# Altium schematic symbol library Capacitors.SchLib: 161 symbols (part 1 of 6)
Pins are listed as number, name and electrical type; pins without a type are passive.

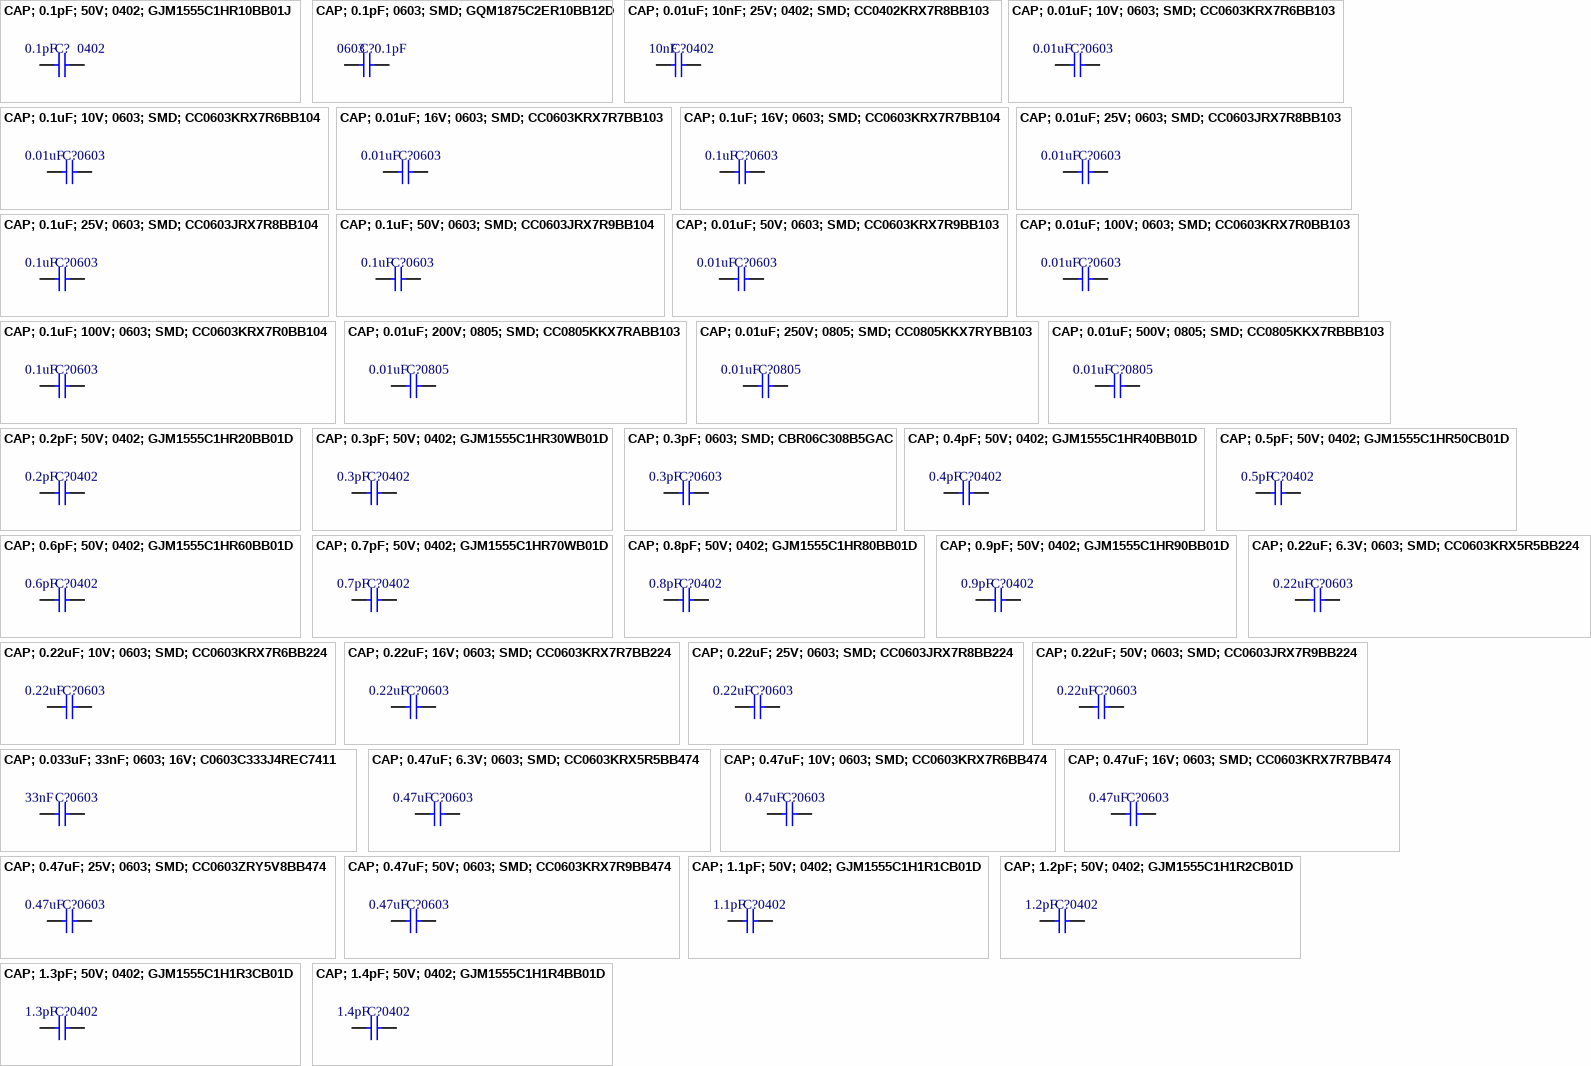
[diagram p0: symbols CAP; 0.1pF; 50V; 0402; GJM1555C1HR10BB01J to CAP; 1.4pF; 50V; 0402; GJM1555C1H1R4BB01D]

## CAP; 0.1pF; 50V; 0402; GJM1555C1HR10BB01J
designator C?, comment value 0.1pF  Package: 0402  (hidden comment: Cap Ceramic 0.1pF 50V C0G 0.1pF SMD 0402 125°C Paper T/R)
Manufacturer: Murata; Manufacturer Part Number: GJM1555C1HR10BB01J; Supplier: Mouser; Supplier Part Number: 81-GJM1555C1HR10BB1J; RoHS: Yes; Category: Ceramic Capacitors; Stock: 52295; Pricing: 1=0.1, 10=0.052, 50=0.052, 100=0.032, 1000=0.021, 10000=0.017 (USD); Mounting Technology: Surface Mount; Case/Package: 0402; Case Code (Imperial): 0402; Case Code (Metric): 1005; Weight: 2.3E-05oz; Min Operating Temperature: -55°C; Max Operating Temperature: 125°C; Voltage Rating (DC): 50V; Packaging: Tape and Reel; Dielectric: C0G; Termination: SMD/SMT; Series: GJM; Construction: Flat; Length: 1mm; Width: 0.5mm; Height: 0.5mm; Depth: 0.5mm; Thickness: 500um; Radiation Hardening: No; RoHS Compliant: Yes; ComponentLink1URL: https://datasheet.ciiva.com/11609/product-11609116.pdf?src-supplier=Avnet; ComponentLink1Description: https://datasheet.ciiva.com/11609/product-11609116.pdf?src-supplier=Avnet
footprint SMD-CAP-0402-ME
pins: 1, 2

## CAP; 0.1pF; 0603; SMD; GQM1875C2ER10BB12D
designator C?, comment value 0.1pF  Package: 0603  (hidden comment: 0.1 pF ±0.1pF 250V Ceramic Capacitor C0G, NP0 0603 (1608 Metric))
Multilayer Ceramic Capacitor, 0.1 pF, 250 V, ± 0.1pF, C0G (NP0), 0603 [1608 Metric]; Manufacturer: Murata; Manufacturer Part Number: GQM1875C2ER10BB12D; Supplier: Mouser; Supplier Part Number: 81-GQM1875C2ER10BB2D; RoHS: Yes; Category: Ceramic Capacitors; Stock: 8028; Pricing: 1=0.37, 10=0.22, 50=0.22, 100=0.145, 1000=0.108, 10000=0.088 (USD); ComponentLink1URL: https://datasheet.ciiva.com/174/product-174598.pdf?src-supplier=Digikey; ComponentLink1Description: https://datasheet.ciiva.com/174/product-174598.pdf?src-supplier=Digikey; ComponentLink2URL: https://datasheet.ciiva.com/11609/product-11609117.pdf?src-supplier=Avnet; ComponentLink2Description: https://datasheet.ciiva.com/11609/product-11609117.pdf?src-supplier=Avnet
footprint SMD-CAP-0603-ME
pins: 1, 2

## CAP; 0.01uF; 10nF; 25V; 0402; SMD; CC0402KRX7R8BB103
designator C?, comment value 10nF  Package: 0402  (hidden comment: 10000 pF ±10% 25V Ceramic Capacitor X7R 0402 (1005 Metric))
0402 10 nF 25 V ±10 % Tolerance X7R SMT Multilayer Ceramic Capacitor; Manufacturer: Yageo; Manufacturer Part Number: CC0402KRX7R8BB103; Material: 4241ConductorMaterial; Temperature Coefficient: 30ppm/°C; Supplier: Future Electronics; Supplier Part Number: 1908656; RoHS: Yes; Category: Ceramic Capacitors; Stock: 11540000; Pricing: 10000=0.0016, 40000=0.0015, 150000=0.0015, 300000=0.0014, 750000=0.0014 (USD); Mounting Technology: Surface Mount; Case/Package: 0402; Case Code (Metric): 1005; Case Code (Imperial): 0402; Min Operating Temperature: -55°C; Max Operating Temperature: 125°C; Tolerance: 10%; Voltage Rating: 25V; Package Quantity: 1; Packaging: Tape and Reel; Voltage Rating (DC): 25V; Dielectric: X7R; Termination: SMD/SMT; Series: CC; Length: 1mm; Width: 0.02inch; Height: 0.5mm; Thickness: 0.022inch; Depth: 0.5mm; Radiation Hardening: No; RoHS Compliant: Yes; Reach SVHC Compliant: Unknown; Halogen Free: 5694HalogenFree; Lead Free: 5697LeadFree; ComponentLink1URL: https://datasheet.ciiva.com/7978/1489800-7978121.pdf?src-supplier=Element14; ComponentLink1Description: https://datasheet.ciiva.com/7978/1489800-7978121.pdf?src-supplier=Element14; ComponentLink2URL: https://datasheet.ciiva.com/28450/1489800-28450361.pdf?src-supplier=Element14; ComponentLink2Description: https://datasheet.ciiva.com/28450/1489800-28450361.pdf?src-supplier=Element14; ComponentLink3URL: https://datasheet.ciiva.com/143/mlccorderingcode-143954.pdf?src-supplier=Digikey; ComponentLink3Description: https://datasheet.ciiva.com/143/mlccorderingcode-143954.pdf?src-supplier=Digikey; ComponentLink4URL: https://datasheet.ciiva.com/143/mlccorderingcode-143953.pdf?src-supplier=Digikey; ComponentLink4Description: https://datasheet.ciiva.com/143/mlccorderingcode-143953.pdf?src-supplier=Digikey; ComponentLink5URL: https://datasheet.ciiva.com/143/mlccorderingcode-143955.pdf?src-supplier=Digikey; ComponentLink5Description: https://datasheet.ciiva.com/143/mlccorderingcode-143955.pdf?src-supplier=Digikey; ComponentLink6URL: https://datasheet.ciiva.com/13389/upy-gphc-x7r-6-3v-to-50v-8-13389981.pdf?src-supplier=Mouser; ComponentLink6Description: https://datasheet.ciiva.com/13389/upy-gphc-x7r-6-3v-to-50v-8-13389981.pdf?src-supplier=Mouser; ComponentLink7URL: https://datasheet.ciiva.com/11464/upy-gphc-x7r-6-3v-to-50v-8-11464888.pdf?src-supplier=Avnet; ComponentLink7Description: https://datasheet.ciiva.com/11464/upy-gphc-x7r-6-3v-to-50v-8-11464888.pdf?src-supplier=Avnet; ComponentLink8URL: https://datasheet.ciiva.com/15189/getdatasheetpartid-375418-15189127.pdf?src-supplier=Verical; ComponentLink8Description: https://datasheet.ciiva.com/15189/getdatasheetpartid-375418-15189127.pdf?src-supplier=Verical
footprint SMD-CAP-0402-YAGEO
pins: 1, 2

## CAP; 0.01uF; 10V; 0603; SMD; CC0603KRX7R6BB103
designator C?, comment value 0.01uF  Package: 0603  (hidden comment: 10000 pF ±10% 10V Ceramic Capacitor X7R 0603 (1608 Metric))
Multilayer Ceramic Capacitor, 0.01 uF, 10 V, ± 10%, X7R, 0603 [1608 Metric]; Manufacturer: Yageo; Manufacturer Part Number: CC0603KRX7R6BB103; Material: 4241ConductorMaterial; Designer: TVBac; Supplier: Digikey; Supplier Part Number: 311-4054-1-ND; RoHS: Yes; Category: Ceramic Capacitors; Stock: 19221; Pricing: 1=0.1, 10=0.046, 50=0.0262, 100=0.0203, 500=0.01528, 1000=0.012 (USD); Lead Free: 5697LeadFree; Halogen Free: 5694HalogenFree; ComponentLink1URL: https://datasheet.ciiva.com/11586/upy-gphc-x7r-6-3v-to-50v-8-11586326.pdf?src-supplier=Avnet; ComponentLink1Description: https://datasheet.ciiva.com/11586/upy-gphc-x7r-6-3v-to-50v-8-11586326.pdf?src-supplier=Avnet; ComponentLink2Description: Link Digikey; ComponentLink2URL: https://www.digikey.com/en/products/detail/yageo/CC0603KRX7R6BB103/5883740
footprint SMD-CAP-0603-YAGEO
pins: 1, 2

## CAP; 0.1uF; 10V; 0603; SMD; CC0603KRX7R6BB104
designator C?, comment value 0.01uF  Package: 0603  (hidden comment: 0.1 µF ±10% 10V Ceramic Capacitor X7R 0603 (1608 Metric))
Multilayer Ceramic Capacitor, 0.1 uF, 10 V, ± 10%, X7R, 0603 [1608 Metric]; Manufacturer: Yageo; Manufacturer Part Number: CC0603KRX7R6BB104; Material: 4241ConductorMaterial; Designer: TVBac; Supplier: Digikey; Supplier Part Number: 311-4055-1-ND; RoHS: Yes; Category: Ceramic Capacitors; Stock: 113177; Pricing: 1=0.1, 10=0.067, 50=0.0398, 100=0.0314, 500=0.02316, 1000=0.01918, 4000=0.01633, 8000=0.01519, 12000=0.01443, 28000=0.01367, 100000=0.01035, 200000=0.0101, 400000=0.00949 (USD); Lead Free: 5697LeadFree; Halogen Free: 5694HalogenFree; ComponentLink1URL: https://datasheet.ciiva.com/11586/upy-gphc-x7r-6-3v-to-50v-8-11586327.pdf?src-supplier=Avnet; ComponentLink1Description: https://datasheet.ciiva.com/11586/upy-gphc-x7r-6-3v-to-50v-8-11586327.pdf?src-supplier=Avnet; ComponentLink2Description: Link Digikey; ComponentLink2URL: https://www.digikey.com/en/products/detail/yageo/CC0603KRX7R6BB104/5883741
footprint SMD-CAP-0603-YAGEO
pins: 1, 2

## CAP; 0.01uF; 16V; 0603; SMD; CC0603KRX7R7BB103
designator C?, comment value 0.01uF  Package: 0603  (hidden comment: 10000 pF ±10% 16V Ceramic Capacitor X7R 0603 (1608 Metric))
Multilayer Ceramic Capacitor, 0.01 uF, 16 V, ± 10%, X7R, 0603 [1608 Metric]; Manufacturer: Yageo; Manufacturer Part Number: CC0603KRX7R7BB103; Material: 4241ConductorMaterial; Designer: TVBac; Supplier: Digikey; Supplier Part Number: 311-3369-1-ND; RoHS: Yes; Category: Ceramic Capacitors; Stock: 24661; Pricing: 1=0.1, 10=0.041, 50=0.0236, 100=0.0183, 500=0.01378, 1000=0.01083 (USD); Lead Free: 5697LeadFree; ComponentLink1URL: https://datasheet.ciiva.com/7978/1489800-7978139.pdf?src-supplier=Element14; ComponentLink1Description: https://datasheet.ciiva.com/7978/1489800-7978139.pdf?src-supplier=Element14; ComponentLink2Description: Link Digikey; ComponentLink2URL: https://www.digikey.com/en/products/detail/yageo/CC0603KRX7R7BB103/5883753
footprint SMD-CAP-0603-YAGEO
pins: 1, 2

## CAP; 0.1uF; 16V; 0603; SMD; CC0603KRX7R7BB104
designator C?, comment value 0.1uF  Package: 0603  (hidden comment: 0.1 µF ±10% 16V Ceramic Capacitor X7R 0603 (1608 Metric))
0603 0.1 uF 16 V ±10 % Tolerance X7R SMT Multilayer Ceramic Capacitor; Manufacturer: Yageo; Manufacturer Part Number: CC0603KRX7R7BB104; Insulation Resistance: 100GR; Designer: TVBac; Supplier: Digikey; Supplier Part Number: 311-1088-1-ND; RoHS: Yes; Category: Ceramic Capacitors; Stock: 8705780; Pricing: 1=0.1, 10=0.042, 50=0.0238, 100=0.0185, 500=0.01392, 1000=0.01094, 4000=0.00915, 8000=0.00836, 12000=0.00796, 28000=0.00756, 100000=0.00547, 200000=0.00529, 400000=0.00497 (USD); Mounting Technology: Surface Mount; Case/Package: 0603; Pins: 2; Case Code (Metric): 1608; Case Code (Imperial): 0603; Material: Ceramic; Min Operating Temperature: -55°C; Max Operating Temperature: 125°C; Voltage Rating: 16V; Tolerance: 10%; Voltage Rating (DC): 16V; Package Quantity: 1; Packaging: Tape and Reel; Dielectric: X7R; Termination: SMD/SMT; Voltage: 16V; Series: CC; Length: 1.6mm; Width: 0.031inch; Height: 0.8mm; Thickness: 0.035inch; Depth: 0.8mm; Radiation Hardening: No; Reach SVHC Compliant: No; Lead Free: Lead Free; Halogen Free: Halogen Free; RoHS Compliant: Yes; ComponentLink1URL: https://datasheet.ciiva.com/11786/0900766b80d84f1d-11786077.pdf?src-supplier=Rs; ComponentLink1Description: https://datasheet.ciiva.com/11786/0900766b80d84f1d-11786077.pdf?src-supplier=Rs; ComponentLink2URL: https://datasheet.ciiva.com/8033/70765-8033799.pdf?src-supplier=Element14; ComponentLink2Description: https://datasheet.ciiva.com/8033/70765-8033799.pdf?src-supplier=Element14; ComponentLink3URL: https://datasheet.ciiva.com/7978/1489800-7978141.pdf?src-supplier=Element14; ComponentLink3Description: https://datasheet.ciiva.com/7978/1489800-7978141.pdf?src-supplier=Element14; ComponentLink4URL: https://datasheet.ciiva.com/28450/1489800-28450552.pdf?src-supplier=Element14; ComponentLink4Description: https://datasheet.ciiva.com/28450/1489800-28450552.pdf?src-supplier=Element14; ComponentLink5URL: https://datasheet.ciiva.com/46430/1734573-46430156.pdf?src-supplier=Element14; ComponentLink5Description: https://datasheet.ciiva.com/46430/1734573-46430156.pdf?src-supplier=Element14; ComponentLink6URL: https://datasheet.ciiva.com/144/mlccorderingcode-144183.pdf?src-supplier=Digikey; ComponentLink6Description: https://datasheet.ciiva.com/144/mlccorderingcode-144183.pdf?src-supplier=Digikey; ComponentLink7URL: https://datasheet.ciiva.com/144/mlccorderingcode-144182.pdf?src-supplier=Digikey; ComponentLink7Description: https://datasheet.ciiva.com/144/mlccorderingcode-144182.pdf?src-supplier=Digikey; ComponentLink8URL: https://datasheet.ciiva.com/144/mlccorderingcode-144184.pdf?src-supplier=Digikey; ComponentLink8Description: https://datasheet.ciiva.com/144/mlccorderingcode-144184.pdf?src-supplier=Digikey; ComponentLink9URL: https://datasheet.ciiva.com/8033/1734573-8033797.pdf?src-supplier=Element14; ComponentLink9Description: https://datasheet.ciiva.com/8033/1734573-8033797.pdf?src-supplier=Element14; ComponentLink10URL: https://datasheet.ciiva.com/13395/upy-gphc-x7r-6-3v-to-50v-8-13395674.pdf?src-supplier=Mouser; ComponentLink10Description: https://datasheet.ciiva.com/13395/upy-gphc-x7r-6-3v-to-50v-8-13395674.pdf?src-supplier=Mouser; ComponentLink11URL: https://datasheet.ciiva.com/11464/upy-gphc-x7r-6-3v-to-50v-8-11464735.pdf?src-supplier=Avnet; ComponentLink11Description: https://datasheet.ciiva.com/11464/upy-gphc-x7r-6-3v-to-50v-8-11464735.pdf?src-supplier=Avnet; ComponentLink12URL: https://datasheet.ciiva.com/15165/getdatasheetpartid-63554-15165387.pdf?src-supplier=Verical; ComponentLink12Description: https://datasheet.ciiva.com/15165/getdatasheetpartid-63554-15165387.pdf?src-supplier=Verical; ComponentLink13Description: Link Digikey; ComponentLink13URL: https://www.digikey.com/en/products/detail/yageo/CC0603KRX7R7BB104/302822
footprint SMD-CAP-0603-YAGEO
pins: 1, 2

## CAP; 0.01uF; 25V; 0603; SMD; CC0603JRX7R8BB103
designator C?, comment value 0.01uF  Package: 0603  (hidden comment: 10000 pF ±5% 25V Ceramic Capacitor X7R 0603 (1608 Metric))
Surface Mount Ceramic Multilayer Capacitor 0.01uF 5% X7R 25V 0603 Paper T/R; Manufacturer: Yageo; Manufacturer Part Number: CC0603JRX7R8BB103; Designer: TVBac; Supplier: Digikey; Supplier Part Number: 311-3995-1-ND; RoHS: Yes; Category: Ceramic Capacitors; Stock: 4379; Pricing: 1=0.1, 10=0.061, 50=0.035, 100=0.0271, 500=0.02036, 1000=0.016 (USD); ComponentLink1URL: https://datasheet.ciiva.com/11465/upy-gphc-x7r-6-3v-to-50v-8-11465030.pdf?src-supplier=Avnet; ComponentLink1Description: https://datasheet.ciiva.com/11465/upy-gphc-x7r-6-3v-to-50v-8-11465030.pdf?src-supplier=Avnet; ComponentLink2Description: Link Digikey; ComponentLink2URL: https://www.digikey.com/en/products/detail/yageo/CC0603JRX7R8BB103/5883656
footprint SMD-CAP-0603-YAGEO
pins: 1, 2

## CAP; 0.1uF; 25V; 0603; SMD; CC0603JRX7R8BB104
designator C?, comment value 0.1uF  Package: 0603  (hidden comment: 0.1 µF ±5% 25V Ceramic Capacitor X7R 0603 (1608 Metric))
Multilayer Ceramic Capacitor, 0.1 uF, 25 V, ï¿½ 5%, X7R, 0603 [1608 Metric]; Manufacturer: Yageo; Manufacturer Part Number: CC0603JRX7R8BB104; Designer: TVBac; Supplier: Digikey; Supplier Part Number: 311-1777-1-ND; RoHS: Yes; Category: Ceramic Capacitors; Stock: 449287; Pricing: 1=0.1, 10=0.068, 50=0.0408, 100=0.0321, 500=0.02372, 1000=0.01964, 4000=0.01672, 8000=0.01555, 12000=0.01478, 28000=0.014, 100000=0.0106, 200000=0.01034, 400000=0.00972 (USD); Mounting Technology: Surface Mount; Case/Package: 0603; Case Code (Imperial): 0603; Case Code (Metric): 1608; Weight: 7.1E-05oz; Min Operating Temperature: -55°C; Max Operating Temperature: 125°C; Voltage Rating: 25V; Voltage Rating (DC): 25V; Tolerance: 5%; Packaging: Tape and Reel; Dielectric: X7R; Termination: SMD/SMT; Series: CC; Construction: Flat; Length: 1.6mm; Width: 0.031inch; Height: 0.8mm; Thickness: 0.035inch; Lead Free: Lead Free; Halogen Free: Halogen Free; RoHS Compliant: Yes; ComponentLink1URL: https://datasheet.ciiva.com/11465/upy-gphc-x7r-6-3v-to-50v-8-11465031.pdf?src-supplier=Avnet; ComponentLink1Description: https://datasheet.ciiva.com/11465/upy-gphc-x7r-6-3v-to-50v-8-11465031.pdf?src-supplier=Avnet; ComponentLink2Description: Link Digikey; ComponentLink2URL: https://www.digikey.com/en/products/detail/yageo/CC0603JRX7R8BB104/5195186
footprint SMD-CAP-0603-YAGEO
pins: 1, 2

## CAP; 0.1uF; 50V; 0603; SMD; CC0603JRX7R9BB104
designator C?, comment value 0.1uF  Package: 0603  (hidden comment: 0.1 µF ±5% 50V Ceramic Capacitor X7R 0603 (1608 Metric))
Multilayer Ceramic Capacitor, 0.1 uF, 50 V, ï¿½ 5%, X7R, 0603 [1608 Metric]; Manufacturer: Yageo; Manufacturer Part Number: CC0603JRX7R9BB104; Material: 4241ConductorMaterial; Designer: TVBac; Supplier: Digikey; Supplier Part Number: 311-1779-1-ND; RoHS: Yes; Category: Ceramic Capacitors; Stock: 376318; Pricing: 1=0.1, 10=0.07, 50=0.04, 100=0.031, 500=0.02334, 1000=0.01833, 4000=0.01533, 8000=0.014, 12000=0.01333, 28000=0.01267, 100000=0.00917, 200000=0.00887, 400000=0.00833 (USD); Pins: 2NUMBER; Lead Free: 5697LeadFree; Halogen Free: 5694HalogenFree; ComponentLink1URL: https://datasheet.ciiva.com/11465/upy-gphc-x7r-6-3v-to-50v-8-11465038.pdf?src-supplier=Avnet; ComponentLink1Description: https://datasheet.ciiva.com/11465/upy-gphc-x7r-6-3v-to-50v-8-11465038.pdf?src-supplier=Avnet; ComponentLink2Description: Link Digikey; ComponentLink2URL: https://www.digikey.com/en/products/detail/yageo/CC0603JRX7R9BB104/5195188
footprint SMD-CAP-0603-YAGEO
pins: 1, 2

## CAP; 0.01uF; 50V; 0603; SMD; CC0603KRX7R9BB103
designator C?, comment value 0.01uF  Package: 0603  (hidden comment: 10000 pF ±10% 50V Ceramic Capacitor X7R 0603 (1608 Metric))
Multilayer Ceramic Capacitors MLCC - SMD/SMT 50V 0.01uF X7R 0603 10%; Manufacturer: Yageo; Manufacturer Part Number: CC0603KRX7R9BB103; Insulation Resistance: 100GR; Designer: TVBac; Supplier: Digikey; Supplier Part Number: 311-1085-1-ND; RoHS: Yes; Category: Ceramic Capacitors; Stock: 3690685; Pricing: 1=0.1, 10=0.031, 50=0.0176, 100=0.0136, 500=0.01026, 1000=0.00805, 4000=0.00674, 8000=0.00615, 12000=0.00586, 28000=0.00557, 100000=0.00403, 200000=0.0039, 400000=0.00366 (USD); Mounting Technology: Surface Mount; Case/Package: 0603; Pins: 2; Case Code (Metric): 1608; Case Code (Imperial): 0603; Material: Ceramic; Min Operating Temperature: -55°C; Max Operating Temperature: 125°C; Tolerance: 10%; Packaging: Tape and Reel; Voltage Rating: 50V; Voltage Rating (DC): 50V; Package Quantity: 1; Dielectric: X7R; Termination: SMD/SMT; Voltage: 50V; Series: CC; Length: 1.6mm; Width: 0.031inch; Height: 0.8mm; Thickness: 0.035inch; Depth: 0.8mm; Radiation Hardening: No; RoHS Compliant: Yes; Reach SVHC Compliant: Unknown; Lead Free: 5697LeadFree; Halogen Free: 5694HalogenFree; ComponentLink1URL: https://datasheet.ciiva.com/8033/70765-8033817.pdf?src-supplier=Element14; ComponentLink1Description: https://datasheet.ciiva.com/8033/70765-8033817.pdf?src-supplier=Element14; ComponentLink2URL: https://datasheet.ciiva.com/28450/1489800-28450619.pdf?src-supplier=Element14; ComponentLink2Description: https://datasheet.ciiva.com/28450/1489800-28450619.pdf?src-supplier=Element14; ComponentLink3URL: https://datasheet.ciiva.com/176/mlccorderingcode-176550.pdf?src-supplier=Digikey; ComponentLink3Description: https://datasheet.ciiva.com/176/mlccorderingcode-176550.pdf?src-supplier=Digikey; ComponentLink4URL: https://datasheet.ciiva.com/176/mlccorderingcode-176552.pdf?src-supplier=Digikey; ComponentLink4Description: https://datasheet.ciiva.com/176/mlccorderingcode-176552.pdf?src-supplier=Digikey; ComponentLink5URL: https://datasheet.ciiva.com/8033/1734573-8033816.pdf?src-supplier=Element14; ComponentLink5Description: https://datasheet.ciiva.com/8033/1734573-8033816.pdf?src-supplier=Element14; ComponentLink6URL: https://datasheet.ciiva.com/8033/1734573-8033861.pdf?src-supplier=Element14; ComponentLink6Description: https://datasheet.ciiva.com/8033/1734573-8033861.pdf?src-supplier=Element14; ComponentLink7Description: Link Digikey; ComponentLink7URL: https://www.digikey.com/en/products/detail/yageo/CC0603KRX7R9BB103/302819
footprint SMD-CAP-0603-YAGEO
pins: 1, 2

## CAP; 0.01uF; 100V; 0603; SMD; CC0603KRX7R0BB103
designator C?, comment value 0.01uF  Package: 0603  (hidden comment: 10000 pF ±10% 100V Ceramic Capacitor X7R 0603 (1608 Metric))
Multilayer Ceramic Capacitor, 0.01 uF, 100 V, ï¿½ 10%, X7R, 0603 [1608 Metric]; Manufacturer: Yageo; Manufacturer Part Number: CC0603KRX7R0BB103; Designer: TVBac; Supplier: Digikey; Supplier Part Number: 311-1788-1-ND; RoHS: Yes; Category: Ceramic Capacitors; Stock: 121645; Pricing: 1=0.1, 10=0.05, 50=0.0288, 100=0.0223, 500=0.0168, 1000=0.01319, 4000=0.01104, 8000=0.01008, 12000=0.0096, 28000=0.00912, 100000=0.0066, 200000=0.00638, 400000=0.006 (USD); Mounting Technology: Surface Mount; Case/Package: 0603; Case Code (Imperial): 0603; Case Code (Metric): 1608; Dielectric Material: Ceramic; Min Operating Temperature: -55°C; Max Operating Temperature: 125°C; Tolerance: 10%; Voltage Rating: 100V; Packaging: Tape and Reel; Package Quantity: 4000; Voltage Rating (DC): 100V; Dielectric: X7R; Termination: SMD/SMT; Series: CC; Construction: Flat; Voltage Rating (AC): 100V; Length: 1.6mm; Width: 0.031inch; Height: 0.8mm; Thickness: 0.035inch; Depth: 0.8mm; Radiation Hardening: No; Lead Free: Lead Free; RoHS Compliant: Yes; Reach SVHC Compliant: Unknown; ComponentLink1URL: https://datasheet.ciiva.com/8033/1669968-8033774.pdf?src-supplier=Element14; ComponentLink1Description: https://datasheet.ciiva.com/8033/1669968-8033774.pdf?src-supplier=Element14; ComponentLink2URL: https://datasheet.ciiva.com/13389/upy-gphc-x7r-6-3v-to-50v-8-13389353.pdf?src-supplier=Mouser; ComponentLink2Description: https://datasheet.ciiva.com/13389/upy-gphc-x7r-6-3v-to-50v-8-13389353.pdf?src-supplier=Mouser; ComponentLink3URL: https://datasheet.ciiva.com/17458/upy-np0x7r-mv-100-to-630v-9-17458073.pdf?src-supplier=Future+Electronics; ComponentLink3Description: https://datasheet.ciiva.com/17458/upy-np0x7r-mv-100-to-630v-9-17458073.pdf?src-supplier=Future+Electronics; ComponentLink4URL: https://datasheet.ciiva.com/26829/getdatasheetpartid-626135-26829418.pdf?src-supplier=Verical; ComponentLink4Description: https://datasheet.ciiva.com/26829/getdatasheetpartid-626135-26829418.pdf?src-supplier=Verical; ComponentLink5Description: Link Digikey; ComponentLink5URL: https://www.digikey.com/en/products/detail/yageo/CC0603KRX7R0BB103/5195196
footprint SMD-CAP-0603-YAGEO
pins: 1, 2

## CAP; 0.1uF; 100V; 0603; SMD; CC0603KRX7R0BB104
designator C?, comment value 0.1uF  Package: 0603  (hidden comment: 0.1 µF ±10% 100V Ceramic Capacitor X7R 0603 (1608 Metric))
Multilayer Ceramic Capacitors MLCC - SMD/SMT 100V 0.1uF X7R 0603 10%; Manufacturer: Yageo; Manufacturer Part Number: CC0603KRX7R0BB104; Material: 4241ConductorMaterial; Designer: TVBac; Supplier: Digikey; Supplier Part Number: 311-1523-1-ND; RoHS: Yes; Category: Ceramic Capacitors; Stock: 5373598; Pricing: 1=0.17, 10=0.113, 50=0.0676, 100=0.0531, 500=0.03922, 1000=0.03246, 4000=0.02764, 8000=0.02572, 12000=0.02443, 28000=0.02314, 100000=0.01752, 200000=0.0171, 400000=0.01607 (USD); Mounting Technology: Surface Mount; Case/Package: 0603; Case Code (Metric): 1608; Case Code (Imperial): 0603; Weight: 7.1E-05oz; Min Operating Temperature: -55°C; Max Operating Temperature: 125°C; Package Quantity: 4000; Voltage Rating: 100V; Tolerance: 10%; Packaging: Tape and Reel; Dielectric: X7R; Termination: SMD/SMT; Voltage Rating (DC): 100V; Series: CC; Length: 0.063inch; Width: 0.031inch; Height: 900um; Thickness: 0.035inch; RoHS Compliant: Yes; Lead Free: 5697LeadFree; ComponentLink1URL: https://datasheet.ciiva.com/6277/mlccorderingcode-6277082.pdf?src-supplier=Digikey; ComponentLink1Description: https://datasheet.ciiva.com/6277/mlccorderingcode-6277082.pdf?src-supplier=Digikey; ComponentLink2URL: https://datasheet.ciiva.com/6277/mlccorderingcode-6277081.pdf?src-supplier=Digikey; ComponentLink2Description: https://datasheet.ciiva.com/6277/mlccorderingcode-6277081.pdf?src-supplier=Digikey; ComponentLink3URL: https://datasheet.ciiva.com/6277/mlccorderingcode-6277030.pdf?src-supplier=Digikey; ComponentLink3Description: https://datasheet.ciiva.com/6277/mlccorderingcode-6277030.pdf?src-supplier=Digikey; ComponentLink4Description: Link Digikey; ComponentLink4URL: https://www.digikey.com/en/products/detail/yageo/CC0603KRX7R0BB104/3476111?s=N4IgTCBcDaIMwEYEFoEFYx1cgcgERAF0BfIA
footprint SMD-CAP-0603-YAGEO
pins: 1, 2

## CAP; 0.01uF; 200V; 0805; SMD; CC0805KKX7RABB103
designator C?, comment value 0.01uF  Package: 0805  (hidden comment: 10000 pF ±10% 200V Ceramic Capacitor X7R 0805 (2012 Metric))
Multilayer Ceramic Capacitor, 0.01 uF, 200 V, ± 10%, X7R, 0805 [2012 Metric]; Manufacturer: Yageo; Manufacturer Part Number: CC0805KKX7RABB103; Designer: TVBac; Supplier: Digikey; Supplier Part Number: 311-1486-1-ND; RoHS: Yes; Category: Ceramic Capacitors; Stock: 24335; Pricing: 1=0.19, 10=0.129, 50=0.0768, 100=0.0605, 500=0.04466, 1000=0.03698 (USD); ComponentLink1URL: https://datasheet.ciiva.com/13207/upy-gp-np0-16v-to-50v-8-3714-13207690.pdf?src-supplier=Mouser; ComponentLink1Description: https://datasheet.ciiva.com/13207/upy-gp-np0-16v-to-50v-8-3714-13207690.pdf?src-supplier=Mouser; ComponentLink2URL: https://datasheet.ciiva.com/179/mlccorderingcode-179293.pdf?src-supplier=Digikey; ComponentLink2Description: https://datasheet.ciiva.com/179/mlccorderingcode-179293.pdf?src-supplier=Digikey; ComponentLink3URL: https://datasheet.ciiva.com/179/mlccorderingcode-179294.pdf?src-supplier=Digikey; ComponentLink3Description: https://datasheet.ciiva.com/179/mlccorderingcode-179294.pdf?src-supplier=Digikey; ComponentLink4URL: https://datasheet.ciiva.com/179/mlccorderingcode-179295.pdf?src-supplier=Digikey; ComponentLink4Description: https://datasheet.ciiva.com/179/mlccorderingcode-179295.pdf?src-supplier=Digikey; ComponentLink5Description: Link Digikey; ComponentLink5URL: https://www.digikey.com/en/products/detail/yageo/CC0805KKX7RABB103/2833651
footprint SMD-CAP-0805-YAGEO
pins: 1, 2

## CAP; 0.01uF; 250V; 0805; SMD; CC0805KKX7RYBB103
designator C?, comment value 0.01uF  Package: 0805  (hidden comment: 10000 pF ±10% 250V Ceramic Capacitor X7R 0805 (2012 Metric))
0805 10 nF 250 V ±10 % Tolerance X7R SMT Multilayer Ceramic Capacitor; Manufacturer: Yageo; Manufacturer Part Number: CC0805KKX7RYBB103; Designer: TVBac; Supplier: Digikey; Supplier Part Number: 311-1477-1-ND; RoHS: Yes; Category: Ceramic Capacitors; Stock: 20011; Pricing: 1=0.19, 10=0.129, 50=0.0768, 100=0.0605, 500=0.04466, 1000=0.03698 (USD); ComponentLink1URL: https://datasheet.ciiva.com/26862/getdatasheetpartid-485493-26862971.pdf?src-supplier=Verical; ComponentLink1Description: https://datasheet.ciiva.com/26862/getdatasheetpartid-485493-26862971.pdf?src-supplier=Verical; ComponentLink2URL: https://datasheet.ciiva.com/8034/1625167-8034008.pdf?src-supplier=Element14; ComponentLink2Description: https://datasheet.ciiva.com/8034/1625167-8034008.pdf?src-supplier=Element14; ComponentLink3URL: https://datasheet.ciiva.com/22698/1919308-22698727.pdf?src-supplier=Element14; ComponentLink3Description: https://datasheet.ciiva.com/22698/1919308-22698727.pdf?src-supplier=Element14; ComponentLink4URL: https://datasheet.ciiva.com/17014/upy-np0x7r-mv-100-to-630v-9-17014489.pdf?src-supplier=Future+Electronics; ComponentLink4Description: https://datasheet.ciiva.com/17014/upy-np0x7r-mv-100-to-630v-9-17014489.pdf?src-supplier=Future+Electronics; ComponentLink5URL: https://datasheet.ciiva.com/178/mlccorderingcode-178800.pdf?src-supplier=Digikey; ComponentLink5Description: https://datasheet.ciiva.com/178/mlccorderingcode-178800.pdf?src-supplier=Digikey; ComponentLink6URL: https://datasheet.ciiva.com/178/mlccorderingcode-178801.pdf?src-supplier=Digikey; ComponentLink6Description: https://datasheet.ciiva.com/178/mlccorderingcode-178801.pdf?src-supplier=Digikey; ComponentLink7URL: https://datasheet.ciiva.com/178/mlccorderingcode-178802.pdf?src-supplier=Digikey; ComponentLink7Description: https://datasheet.ciiva.com/178/mlccorderingcode-178802.pdf?src-supplier=Digikey; ComponentLink8URL: https://datasheet.ciiva.com/11465/upy-np0x7r-mv-100-to-630v-9-11465245.pdf?src-supplier=Avnet; ComponentLink8Description: https://datasheet.ciiva.com/11465/upy-np0x7r-mv-100-to-630v-9-11465245.pdf?src-supplier=Avnet; ComponentLink9Description: Link Digikey; ComponentLink9URL: https://www.digikey.com/en/products/detail/yageo/CC0805KKX7RYBB103/2833642
footprint SMD-CAP-0805-YAGEO
pins: 1, 2

## CAP; 0.01uF; 500V; 0805; SMD; CC0805KKX7RBBB103
designator C?, comment value 0.01uF  Package: 0805  (hidden comment: 10000 pF ±10% 500V Ceramic Capacitor X7R 0805 (2012 Metric))
Surface Mount Ceramic Multilayer Capacitor 0.01uF 10% X7R 500V 0805 Blister T/R; Manufacturer: Yageo; Manufacturer Part Number: CC0805KKX7RBBB103; Dielectric Material: 4241ConductorMaterial; Designer: TVBac; Supplier: Future Electronics; Supplier Part Number: 6622369; RoHS: Yes; Category: Ceramic Capacitors; Stock: 21000; Pricing: 3000=0.0191, 9000=0.0187, 15000=0.0185, 60000=0.0179, 90000=0.0176 (USD); Voltage Rating (AC): 500V; Lead Free: 5697LeadFree; ComponentLink1URL: https://datasheet.ciiva.com/11786/0900766b80d84f7f-11786089.pdf?src-supplier=Rs; ComponentLink1Description: https://datasheet.ciiva.com/11786/0900766b80d84f7f-11786089.pdf?src-supplier=Rs; ComponentLink2URL: https://datasheet.ciiva.com/13264/upy-gp-np0-16v-to-50v-8-3714-13264827.pdf?src-supplier=Mouser; ComponentLink2Description: https://datasheet.ciiva.com/13264/upy-gp-np0-16v-to-50v-8-3714-13264827.pdf?src-supplier=Mouser; ComponentLink3URL: https://datasheet.ciiva.com/8034/1669968-8034005.pdf?src-supplier=Element14; ComponentLink3Description: https://datasheet.ciiva.com/8034/1669968-8034005.pdf?src-supplier=Element14; ComponentLink4URL: https://datasheet.ciiva.com/8034/1669968-8034006.pdf?src-supplier=Element14; ComponentLink4Description: https://datasheet.ciiva.com/8034/1669968-8034006.pdf?src-supplier=Element14; ComponentLink5Description: Link Digikey; ComponentLink5URL: https://www.digikey.com/en/products/detail/yageo/CC0805KKX7RBBB103/5884165
footprint SMD-CAP-0805-YAGEO
pins: 1, 2

## CAP; 0.2pF; 50V; 0402; GJM1555C1HR20BB01D
designator C?, comment value 0.2pF  Package: 0402  (hidden comment: CAP CER 0.2PF 50V C0G/NP0 0402)
Manufacturer: Murata; Manufacturer Part Number: GJM1555C1HR20BB01D; Supplier: Mouser; Supplier Part Number: 81-GJM1555C1HR20BB01; RoHS: Yes; Category: Ceramic Capacitors; Stock: 14868; Pricing: 1=0.11, 10=0.058, 50=0.058, 100=0.034, 1000=0.022, 10000=0.015 (USD); ComponentLink1URL: https://datasheet.ciiva.com/11618/product-11618951.pdf?src-supplier=Avnet; ComponentLink1Description: https://datasheet.ciiva.com/11618/product-11618951.pdf?src-supplier=Avnet; ComponentLink2URL: https://datasheet.ciiva.com/3778/2864gjm1555c1hr20bb0123-3778292.pdf?src-supplier=Arrow+Electronics; ComponentLink2Description: https://datasheet.ciiva.com/3778/2864gjm1555c1hr20bb0123-3778292.pdf?src-supplier=Arrow+Electronics; ComponentLink3URL: https://datasheet.ciiva.com/5694/1700183-5694996.pdf?src-supplier=Farnell; ComponentLink3Description: https://datasheet.ciiva.com/5694/1700183-5694996.pdf?src-supplier=Farnell; ComponentLink4URL: https://datasheet.ciiva.com/8030/1303334-8030133.pdf?src-supplier=Element14; ComponentLink4Description: https://datasheet.ciiva.com/8030/1303334-8030133.pdf?src-supplier=Element14; ComponentLink5URL: https://datasheet.ciiva.com/22732/1303334-22732106.pdf?src-supplier=Element14; ComponentLink5Description: https://datasheet.ciiva.com/22732/1303334-22732106.pdf?src-supplier=Element14; ComponentLink6URL: https://datasheet.ciiva.com/167/partnumbering-e-01-167839.pdf?src-supplier=Digikey; ComponentLink6Description: https://datasheet.ciiva.com/167/partnumbering-e-01-167839.pdf?src-supplier=Digikey; ComponentLink7URL: https://datasheet.ciiva.com/29542/partnumbering-e-01-29542731.pdf?src-supplier=Digikey; ComponentLink7Description: https://datasheet.ciiva.com/29542/partnumbering-e-01-29542731.pdf?src-supplier=Digikey; ComponentLink8URL: https://datasheet.ciiva.com/29542/partnumbering-e-01-29542732.pdf?src-supplier=Digikey; ComponentLink8Description: https://datasheet.ciiva.com/29542/partnumbering-e-01-29542732.pdf?src-supplier=Digikey; Case Code (Imperial): 0402
footprint SMD-CAP-0402-ME
pins: 1, 2

## CAP; 0.3pF; 50V; 0402; GJM1555C1HR30WB01D
designator C?, comment value 0.3pF  Package: 0402  (hidden comment: 0402 0.3 pF 50V ±0.05 pF Tolerance C0G SMT Multilayer Ceramic Capacitor)
Manufacturer: Murata; Manufacturer Part Number: GJM1555C1HR30WB01D; Material: 4241ConductorMaterial; Temperature Coefficient: 30ppm/°C; Supplier: Future Electronics; Supplier Part Number: 6104033; RoHS: Yes; Category: Ceramic Capacitors; Stock: 7462; Pricing: 1=0.13, 20=0.0959, 150=0.0728, 1000=0.051, 5000=0.0325 (USD); Mounting Technology: Surface Mount; Case/Package: 0402; Case Code (Metric): 1005; Case Code (Imperial): 0402; Min Operating Temperature: -55°C; Max Operating Temperature: 125°C; Packaging: Tape and Reel; Package Quantity: 10000; Voltage Rating: 50V; Dielectric: C0G; Voltage Rating (DC): 50V; Termination: SMD/SMT; Series: GJM; Construction: Flat; Length: 1mm; Width: 0.02inch; Height: 0.5mm; Thickness: 0.022inch; Depth: 0.5mm; Radiation Hardening: No; Lead Free: Lead Free; RoHS Compliant: Yes; ComponentLink1URL: https://datasheet.ciiva.com/11617/product-11617574.pdf?src-supplier=Avnet; ComponentLink1Description: https://datasheet.ciiva.com/11617/product-11617574.pdf?src-supplier=Avnet
footprint SMD-CAP-0402-ME
pins: 1, 2

## CAP; 0.3pF; 0603; SMD; CBR06C308B5GAC
designator C?, comment value 0.3pF  Package: 0603  (hidden comment: 0.3 pF ±0.1pF 50V Ceramic Capacitor C0G, NP0 0603 (1608 Metric))
Cap Cer Cap Cer 0.3PF 50V NP0 06; Manufacturer: KEMET; Manufacturer Part Number: CBR06C308B5GAC; Supplier: Mouser; Supplier Part Number: 80-CBR06C308B5G; RoHS: Yes; Category: Ceramic Capacitors; Stock: 19259; Pricing: 1=0.19, 10=0.078, 50=0.078, 100=0.05, 1000=0.045, 10000=0.03 (USD); Mounting Technology: Surface Mount; Case/Package: 0603; Case Code (Metric): 1608; Case Code (Imperial): 0603; Weight: 7.1E-05oz; Min Operating Temperature: -55°C; Max Operating Temperature: 125°C; Package Quantity: 4000; Voltage Rating: 50V; Packaging: Tape and Reel; Voltage Rating (DC): 50V; Dielectric: C0G; Termination: SMD/SMT; Series: CBR; Length: 0.063inch; Width: 0.8mm; Height: 0.8mm; Thickness: 0.034inch; RoHS Compliant: Yes; ComponentLink1URL: https://datasheet.ciiva.com/6274/kem-c1030-cbr-smd-6274588.pdf?src-supplier=Digikey; ComponentLink1Description: https://datasheet.ciiva.com/6274/kem-c1030-cbr-smd-6274588.pdf?src-supplier=Digikey
footprint SMD-CAP-0603-KEMET
pins: 1, 2

## CAP; 0.4pF; 50V; 0402; GJM1555C1HR40BB01D
designator C?, comment value 0.4pF  Package: 0402  (hidden comment: GJM1555C1HR40BB01D ; Rohs; Murata ; Cap Ceramic 0.4PF 50V C0G 0402*)
GJM1555C1HR40BB01D ; Rohs; Murata ; Cap Ceramic 0.4PF 50V C0G 0402; Supplier: Mouser; Supplier Part Number: 81-GJM1555C1HR40BB01; Manufacturer: Murata; Manufacturer Part Number: GJM1555C1HR40BB01D; RoHS: Yes; Category: Ceramic Capacitors; Stock: 24973; Pricing: 1=0.1, 10=0.046, 50=0.046, 100=0.027, 1000=0.022, 10000=0.017 (USD); ComponentLink1URL: https://datasheet.ciiva.com/167/product-167841.pdf?src-supplier=Digikey; ComponentLink1Description: https://datasheet.ciiva.com/167/product-167841.pdf?src-supplier=Digikey; ComponentLink2URL: https://datasheet.ciiva.com/29542/partnumbering-e-01-29542713.pdf?src-supplier=Digikey; ComponentLink2Description: https://datasheet.ciiva.com/29542/partnumbering-e-01-29542713.pdf?src-supplier=Digikey; ComponentLink3URL: https://datasheet.ciiva.com/29542/partnumbering-e-01-29542714.pdf?src-supplier=Digikey; ComponentLink3Description: https://datasheet.ciiva.com/29542/partnumbering-e-01-29542714.pdf?src-supplier=Digikey; ComponentLink4URL: https://datasheet.ciiva.com/11621/product-11621837.pdf?src-supplier=Avnet; ComponentLink4Description: https://datasheet.ciiva.com/11621/product-11621837.pdf?src-supplier=Avnet; Case Code (Imperial): 0402
footprint SMD-CAP-0402-ME
pins: 1, 2

## CAP; 0.5pF; 50V; 0402; GJM1555C1HR50CB01D
designator C?, comment value 0.5pF  Package: 0402  (hidden comment: GJM1555C1HR40BB01D ; Rohs; Murata ; Cap Ceramic 0.4PF 50V C0G 0402)
Multilayer Ceramic Capacitor, 0.5 pF, 50 V, ± 0.25pF, C0G (NP0), 0402 [1005 Metric]; Manufacturer Part Number: GJM1555C1HR50CB01D; Supplier: Mouser; Supplier Part Number: 81-GJM1555C1HR50CB1D; Manufacturer: Murata; RoHS: Yes; Category: Ceramic Capacitors; Stock: 26461; Pricing: 1=0.1, 10=0.032, 50=0.032, 100=0.021, 1000=0.013, 10000=0.008 (USD); Mounting Technology: Surface Mount; Case/Package: 0402; Case Code (Imperial): 0402; Case Code (Metric): 1005; Min Operating Temperature: -55°C; Max Operating Temperature: 125°C; Packaging: Tape and Reel; Voltage Rating: 50V; Package Quantity: 1; Dielectric: C0G; Termination: SMD/SMT; Voltage Rating (DC): 50V; Series: GJM; Construction: Flat; Length: 0.039inch; Width: 0.02inch; Height: 0.5mm; Thickness: 0.022inch; Depth: 0.5mm; Radiation Hardening: No; Lead Free: Lead Free; RoHS Compliant: Yes; ComponentLink1URL: https://datasheet.ciiva.com/129/chip20monolithic20cer20caps20c02e-13-129648.pdf?src-supplier=Digikey; ComponentLink1Description: https://datasheet.ciiva.com/129/chip20monolithic20cer20caps20c02e-13-129648.pdf?src-supplier=Digikey; ComponentLink2URL: https://datasheet.ciiva.com/16440/gjm1555c1hr50cb01d-16440467.pdf?src-supplier=Future+Electronics; ComponentLink2Description: https://datasheet.ciiva.com/16440/gjm1555c1hr50cb01d-16440467.pdf?src-supplier=Future+Electronics; ComponentLink3URL: https://datasheet.ciiva.com/29541/partnumbering-e-01-29541101.pdf?src-supplier=Digikey; ComponentLink3Description: https://datasheet.ciiva.com/29541/partnumbering-e-01-29541101.pdf?src-supplier=Digikey; ComponentLink4URL: https://datasheet.ciiva.com/29541/partnumbering-e-01-29541100.pdf?src-supplier=Digikey; ComponentLink4Description: https://datasheet.ciiva.com/29541/partnumbering-e-01-29541100.pdf?src-supplier=Digikey; ComponentLink5URL: https://datasheet.ciiva.com/11617/c02e-11617174.pdf?src-supplier=Avnet; ComponentLink5Description: https://datasheet.ciiva.com/11617/c02e-11617174.pdf?src-supplier=Avnet
footprint SMD-CAP-0402-ME
pins: 1, 2

## CAP; 0.6pF; 50V; 0402; GJM1555C1HR60BB01D
designator C?, comment value 0.6pF  Package: 0402  (hidden comment: CAP CER 0.6PF 50V NP0 0402)
Manufacturer: Murata; Manufacturer Part Number: GJM1555C1HR60BB01D; Material: 4241ConductorMaterial; Dielectric: C0G; Temperature Coefficient: 30ppm/°C; Supplier: Mouser; Supplier Part Number: 81-GJM1555C1HR60BB1D; RoHS: Yes; Category: Ceramic Capacitors; Stock: 20200; Pricing: 1=0.1, 10=0.048, 50=0.048, 100=0.031, 1000=0.021, 10000=0.012 (USD); Mounting Technology: Surface Mount; Case/Package: 0402; Case Code (Imperial): 0402; Case Code (Metric): 1005; Min Operating Temperature: -55°C; Max Operating Temperature: 125°C; Package Quantity: 1; Packaging: Tape and Reel; Voltage Rating: 50V; Termination: SMD/SMT; Voltage Rating (DC): 50V; Series: GJM; Construction: Flat; Length: 1mm; Width: 0.02inch; Height: 0.5mm; Thickness: 0.022inch; Depth: 0.5mm; Radiation Hardening: No; Lead Free: Lead Free; RoHS Compliant: Yes; ComponentLink1URL: https://datasheet.ciiva.com/6270/product-6270546.pdf?src-supplier=Digikey; ComponentLink1Description: https://datasheet.ciiva.com/6270/product-6270546.pdf?src-supplier=Digikey; ComponentLink2URL: https://datasheet.ciiva.com/16500/l0005e-16500839.pdf?src-supplier=Future+Electronics; ComponentLink2Description: https://datasheet.ciiva.com/16500/l0005e-16500839.pdf?src-supplier=Future+Electronics
footprint SMD-CAP-0402-ME
pins: 1, 2

## CAP; 0.7pF; 50V; 0402; GJM1555C1HR70WB01D
designator C?, comment value 0.7pF  Package: 0402  (hidden comment: Multilayer Ceramic Capacitor, 0.7 pF, 50 V, ï¿½ 0.05pF, C0G (NP0), 0402 [1005 Metric])
Manufacturer: Murata; Manufacturer Part Number: GJM1555C1HR70WB01D; Material: 4241ConductorMaterial; Temperature Coefficient: 30ppm/°C; Supplier: Mouser; Supplier Part Number: 81-GJM1555C1HR70WB1D; RoHS: Yes; Category: Ceramic Capacitors; Stock: 24991; Pricing: 1=0.13, 10=0.075, 50=0.075, 100=0.048, 1000=0.033, 10000=0.022 (USD); ComponentLink1URL: https://datasheet.ciiva.com/170/product-170099.pdf?src-supplier=Digikey; ComponentLink1Description: https://datasheet.ciiva.com/170/product-170099.pdf?src-supplier=Digikey; ComponentLink2URL: https://datasheet.ciiva.com/2989/product-2989256.pdf?src-supplier=Avnet; ComponentLink2Description: https://datasheet.ciiva.com/2989/product-2989256.pdf?src-supplier=Avnet; Case Code (Imperial): 0402
footprint SMD-CAP-0402-ME
pins: 1, 2

## CAP; 0.8pF; 50V; 0402; GJM1555C1HR80BB01D
designator C?, comment value 0.8pF  Package: 0402  (hidden comment: Multilayer Ceramic Capacitor, 0.8 pF, 50 V, ± 0.1pF, C0G (NP0), 0402 [1005 Metric])
Manufacturer: Murata; Manufacturer Part Number: GJM1555C1HR80BB01D; Material: 4241ConductorMaterial; Voltage Rating: 50V; Temperature Coefficient: 30ppm/°C; Supplier: Mouser; Supplier Part Number: 81-GJM1555C1HR80BB1D; RoHS: Yes; Category: Ceramic Capacitors; Stock: 31297; Pricing: 1=0.11, 10=0.058, 50=0.058, 100=0.034, 1000=0.029, 10000=0.018 (USD); Mounting Technology: Surface Mount; Case/Package: 0402; Case Code (Metric): 1005; Case Code (Imperial): 0402; Min Operating Temperature: -55°C; Max Operating Temperature: 125°C; Packaging: Tape and Reel; Package Quantity: 1; Voltage Rating (DC): 50V; Dielectric: C0G; Termination: SMD/SMT; Voltage: 50V; Series: GJM; Construction: Flat; Length: 1mm; Width: 0.02inch; Height: 0.5mm; Thickness: 0.022inch; Depth: 0.5mm; Radiation Hardening: No; RoHS Compliant: Yes; Lead Free: 5697LeadFree; ComponentLink1URL: https://datasheet.ciiva.com/6270/product-6270516.pdf?src-supplier=Digikey; ComponentLink1Description: https://datasheet.ciiva.com/6270/product-6270516.pdf?src-supplier=Digikey; ComponentLink2URL: https://datasheet.ciiva.com/18183/getdatasheetpartid-75095-18183863.pdf?src-supplier=Verical; ComponentLink2Description: https://datasheet.ciiva.com/18183/getdatasheetpartid-75095-18183863.pdf?src-supplier=Verical; ComponentLink3URL: https://datasheet.ciiva.com/6270/partnumbering-e-01-6270552.pdf?src-supplier=Digikey; ComponentLink3Description: https://datasheet.ciiva.com/6270/partnumbering-e-01-6270552.pdf?src-supplier=Digikey; ComponentLink4URL: https://datasheet.ciiva.com/6270/partnumbering-e-01-6270517.pdf?src-supplier=Digikey; ComponentLink4Description: https://datasheet.ciiva.com/6270/partnumbering-e-01-6270517.pdf?src-supplier=Digikey; ComponentLink5URL: https://datasheet.ciiva.com/11616/product-11616838.pdf?src-supplier=Avnet; ComponentLink5Description: https://datasheet.ciiva.com/11616/product-11616838.pdf?src-supplier=Avnet; ComponentLink6URL: https://datasheet.ciiva.com/16440/l0005e-16440469.pdf?src-supplier=Future+Electronics; ComponentLink6Description: https://datasheet.ciiva.com/16440/l0005e-16440469.pdf?src-supplier=Future+Electronics
footprint SMD-CAP-0402-ME
pins: 1, 2

## CAP; 0.9pF; 50V; 0402; GJM1555C1HR90BB01D
designator C?, comment value 0.9pF  Package: 0402  (hidden comment: 0402 0.9 pF 50 V ±0.1 pF Tolerance C0G SMT Multilayer Ceramic Capacitor)
Manufacturer: Murata; Manufacturer Part Number: GJM1555C1HR90BB01D; Material: 4241ConductorMaterial; Temperature Coefficient: 30ppm/°C; Voltage Rating (DC): 50V; Supplier: Mouser; Supplier Part Number: 81-GJM1555C1HR90BB1D; RoHS: Yes; Category: Ceramic Capacitors; Stock: 28287; Pricing: 1=0.11, 10=0.058, 50=0.058, 100=0.034, 1000=0.029, 10000=0.017 (USD); Lead Free: 5697LeadFree; ComponentLink1URL: https://datasheet.ciiva.com/11616/product-11616771.pdf?src-supplier=Avnet; ComponentLink1Description: https://datasheet.ciiva.com/11616/product-11616771.pdf?src-supplier=Avnet; ComponentLink2URL: https://datasheet.ciiva.com/6270/partnumbering-e-01-6270518.pdf?src-supplier=Digikey; ComponentLink2Description: https://datasheet.ciiva.com/6270/partnumbering-e-01-6270518.pdf?src-supplier=Digikey; ComponentLink3URL: https://datasheet.ciiva.com/6270/partnumbering-e-01-6270519.pdf?src-supplier=Digikey; ComponentLink3Description: https://datasheet.ciiva.com/6270/partnumbering-e-01-6270519.pdf?src-supplier=Digikey; ComponentLink4URL: https://datasheet.ciiva.com/6270/partnumbering-e-01-6270520.pdf?src-supplier=Digikey; ComponentLink4Description: https://datasheet.ciiva.com/6270/partnumbering-e-01-6270520.pdf?src-supplier=Digikey; Case Code (Imperial): 0402
footprint SMD-CAP-0402-ME
pins: 1, 2

## CAP; 0.22uF; 6.3V; 0603; SMD; CC0603KRX5R5BB224
designator C?, comment value 0.22uF  Package: 0603  (hidden comment: 0.22 µF ±10% 6.3V Ceramic Capacitor X5R 0603 (1608 Metric))
Multilayer Ceramic Capacitor, 0.22 uF, 6.3 V, ± 10%, X5R, 0603 [1608 Metric]; Manufacturer: Yageo; Manufacturer Part Number: CC0603KRX5R5BB224; Material: 4241ConductorMaterial; Designer: TVBac; Supplier: Digikey; Supplier Part Number: 13-CC0603KRX5R5BB224CT-ND; RoHS: Yes; Category: Ceramic Capacitors; Stock: 19980; Pricing: 1=0.15, 10=0.102, 50=0.061, 100=0.0481, 500=0.03548, 1000=0.02938 (USD); Mounting Technology: Surface Mount; Case/Package: 0603; Case Code (Imperial): 0603; Case Code (Metric): 1608; Weight: 7.1E-05oz; Min Operating Temperature: -55°C; Max Operating Temperature: 85°C; Tolerance: 10%; Voltage Rating (DC): 6.3V; Packaging: Tape and Reel; Dielectric: X5R; Voltage Rating: 6.3V; Termination: SMD/SMT; Series: CC; Construction: Flat; Length: 0.063inch; Width: 0.031inch; Height: 900um; Thickness: 0.035inch; Depth: 0.8mm; Radiation Hardening: No; Lead Free: Lead Free; Halogen Free: Halogen Free; RoHS Compliant: Yes; ComponentLink1URL: http://www.mouser.com/ds/2/447/UPY-GPHC_X5R_4V-to-50V_25-1131599.pdf?src-supplier=Mouser; ComponentLink1Description: http://www.mouser.com/ds/2/447/UPY-GPHC_X5R_4V-to-50V_25-1131599.pdf?src-supplier=Mouser; ComponentLink2URL: http://www.yageo.com/exep/pages/download/literatures/ProductSelectionGuide%202014_Final_2.pdf?src-supplier=Digikey; ComponentLink2Description: http://www.yageo.com/exep/pages/download/literatures/ProductSelectionGuide%202014_Final_2.pdf?src-supplier=Digikey; ComponentLink3Description: Link Digikey; ComponentLink3URL: https://www.digikey.com/en/products/detail/yageo/CC0603KRX5R5BB224/5883717
footprint SMD-CAP-0603-YAGEO
pins: 1, 2

## CAP; 0.22uF; 10V; 0603; SMD; CC0603KRX7R6BB224
designator C?, comment value 0.22uF  Package: 0603  (hidden comment: 0.22 µF ±10% 10V Ceramic Capacitor X7R 0603 (1608 Metric))
Cap Ceramic 0.22uF 10V X7R 10% SMD 0603 125C T/R; Manufacturer: Yageo; Manufacturer Part Number: CC0603KRX7R6BB224; Designer: TVBac; Supplier: Digikey; Supplier Part Number: 311-1346-1-ND; RoHS: Yes; Category: Ceramic Capacitors; Stock: 184141; Pricing: 1=0.1, 10=0.058, 50=0.0334, 100=0.0258, 500=0.01944, 1000=0.01528 (USD); ComponentLink1URL: https://datasheet.ciiva.com/11786/0900766b80ce67ed-11786433.pdf?src-supplier=Rs; ComponentLink1Description: https://datasheet.ciiva.com/11786/0900766b80ce67ed-11786433.pdf?src-supplier=Rs; ComponentLink2URL: https://datasheet.ciiva.com/15189/getdatasheetpartid-93657-15189159.pdf?src-supplier=Verical; ComponentLink2Description: https://datasheet.ciiva.com/15189/getdatasheetpartid-93657-15189159.pdf?src-supplier=Verical; ComponentLink3URL: https://datasheet.ciiva.com/144/mlccorderingcode-144664.pdf?src-supplier=Digikey; ComponentLink3Description: https://datasheet.ciiva.com/144/mlccorderingcode-144664.pdf?src-supplier=Digikey; ComponentLink4URL: https://datasheet.ciiva.com/144/mlccorderingcode-144665.pdf?src-supplier=Digikey; ComponentLink4Description: https://datasheet.ciiva.com/144/mlccorderingcode-144665.pdf?src-supplier=Digikey; ComponentLink5URL: https://datasheet.ciiva.com/144/mlccorderingcode-144666.pdf?src-supplier=Digikey; ComponentLink5Description: https://datasheet.ciiva.com/144/mlccorderingcode-144666.pdf?src-supplier=Digikey; ComponentLink6URL: https://datasheet.ciiva.com/11464/upy-gphc-x7r-6-3v-to-50v-8-11464734.pdf?src-supplier=Avnet; ComponentLink6Description: https://datasheet.ciiva.com/11464/upy-gphc-x7r-6-3v-to-50v-8-11464734.pdf?src-supplier=Avnet; ComponentLink7URL: https://datasheet.ciiva.com/8033/1489800-8033791.pdf?src-supplier=Element14; ComponentLink7Description: https://datasheet.ciiva.com/8033/1489800-8033791.pdf?src-supplier=Element14; ComponentLink8URL: https://datasheet.ciiva.com/7978/1489800-7978173.pdf?src-supplier=Element14; ComponentLink8Description: https://datasheet.ciiva.com/7978/1489800-7978173.pdf?src-supplier=Element14; ComponentLink9Description: Link Digikey; ComponentLink9URL: https://www.digikey.com/en/products/detail/yageo/CC0603KRX7R6BB224/2103084
footprint SMD-CAP-0603-YAGEO
pins: 1, 2

## CAP; 0.22uF; 16V; 0603; SMD; CC0603KRX7R7BB224
designator C?, comment Package: 0603  Value1: 0.22uF  (hidden comment: 0.22 µF ±10% 16V Ceramic Capacitor X7R 0603 (1608 Metric))
Multilayer Ceramic Capacitor, 0.22 uF, 16 V, ± 10%, X7R, 0603 [1608 Metric]; Manufacturer: Yageo; Manufacturer Part Number: CC0603KRX7R7BB224; Material: 4241ConductorMaterial; Designer: TVBac; Value: 0.22uF; Supplier: Digikey; Supplier Part Number: 311-1426-1-ND; RoHS: Yes; Category: Ceramic Capacitors; Stock: 52401; Pricing: 1=0.1, 10=0.058, 50=0.0334, 100=0.0258, 500=0.01944, 1000=0.01528, 4000=0.01278, 8000=0.01167, 12000=0.01111, 28000=0.01055, 100000=0.00764, 200000=0.00739, 400000=0.00694 (USD); Voltage Rating (DC): 16V; Lead Free: 5697LeadFree; Halogen Free: 5694HalogenFree; ComponentLink1URL: https://datasheet.ciiva.com/11788/0900766b80d84f1d-11788400.pdf?src-supplier=Rs; ComponentLink1Description: https://datasheet.ciiva.com/11788/0900766b80d84f1d-11788400.pdf?src-supplier=Rs; ComponentLink2URL: https://datasheet.ciiva.com/176/mlccorderingcode-176606.pdf?src-supplier=Digikey; ComponentLink2Description: https://datasheet.ciiva.com/176/mlccorderingcode-176606.pdf?src-supplier=Digikey; ComponentLink3URL: https://datasheet.ciiva.com/176/mlccorderingcode-176607.pdf?src-supplier=Digikey; ComponentLink3Description: https://datasheet.ciiva.com/176/mlccorderingcode-176607.pdf?src-supplier=Digikey; ComponentLink4URL: https://datasheet.ciiva.com/176/mlccorderingcode-176608.pdf?src-supplier=Digikey; ComponentLink4Description: https://datasheet.ciiva.com/176/mlccorderingcode-176608.pdf?src-supplier=Digikey; ComponentLink5Description: Link Digikey; ComponentLink5URL: https://www.digikey.com/en/products/detail/yageo/CC0603KRX7R7BB224/2833591
footprint SMD-CAP-0603-YAGEO
pins: 1, 2